# EAGLE library part LM358 (library ARVP_Linear_Technology)
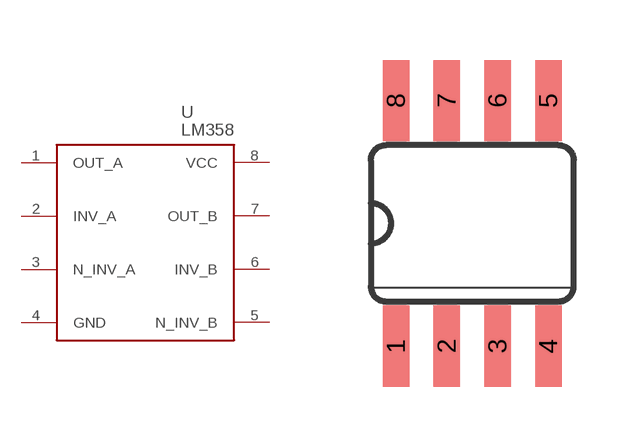
[diagram p7: symbol with the pads of SO08; footprint SO08]

Designator prefix -

## LM358  [SO08]
1  OUT_A  out
2  INV_A  in
3  N_INV_A  in
4  GND  pwr
5  N_INV_B  in
6  INV_B  in
7  OUT_B  out
8  VCC  in

## Footprint SO08 (pad centres in mm)
Small Outline package 150 mil
smd 0.66 x 2.032: 1 -1.905,-3.073; 2 -0.635,-3.073; 3 0.635,-3.073; 4 1.905,-3.073; 5 1.905,3.073; 6 0.635,3.073; 7 -0.635,3.073; 8 -1.905,3.073